# EAGLE library part BD9778 (library X893)
Flexible step-down switching regulator http://www.rohm.com/products/databook/power/pdf/bd9001f-e.pdf
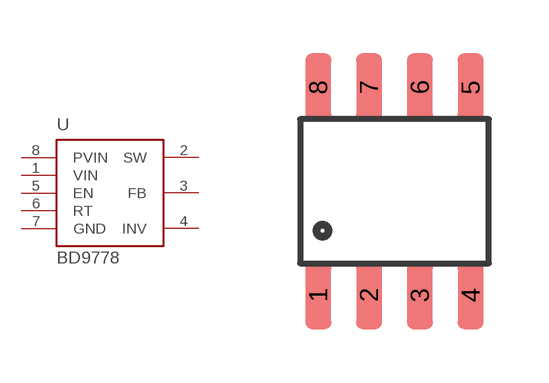
[diagram p20: symbol with the pads of SO08; footprint SO08]

Designator prefix U

## BD9778  [SO08]
1  VIN  pas
2  SW  pas
3  FB  pas
4  INV  pas
5  EN  pas
6  RT  pas
7  GND  sup
8  PVIN  pas

## Footprint SO08 (pad centres in mm)
Small Outline Package Fits JEDEC packages (narrow SOIC-8)
smd 0.65 x 1.7: 1 -1.905,-2.6; 2 -0.635,-2.6; 3 0.635,-2.6; 4 1.905,-2.6; 5 1.905,2.6; 6 0.635,2.6; 7 -0.635,2.6; 8 -1.905,2.6